# Altium schematic symbol library 7447709471.SchLib: 1 symbol
Pins are listed as number, name and electrical type; pins without a type are passive.

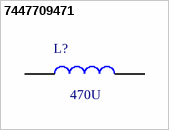
[diagram p0: symbol 7447709471]

## 7447709471
designator L?, comment 470U
FIXED IND 470UH 1.4A 560MOHM SMD; Manufacturer_Name: Wurth Elektronik; Manufacturer_Part_Number: 7447709471; Mouser Part Number: 710-7447709471; Mouser Price/Stock: https://www.mouser.co.uk/ProductDetail/Wurth-Elektronik/7447709471?qs=E%2F%2FhvbtCqpPDFF5ZuHB1Jw%3D%3D; Arrow Part Number: *; Arrow Price/Stock: *; Mouser Testing Part Number: *; Mouser Testing Price/Stock: *; Datasheet Link: http://componentsearchengine.com/Datasheets/1/7447709471.pdf
footprint WE-PD_1260/1245/1280/121054
pins: 1, 2